# Altium footprint library CREE-JR5050.PcbLib: 1 footprints
Each footprint in its own frame and in the unit in brackets; x right, y up, seen from the top. Pads: shape width x height; smd on the part's side, far side on the other; paste and mask are expansions set on the pad; w line width, h text height; cw(c..) or ccw(c..) is an arc to the next point about the centre after c.
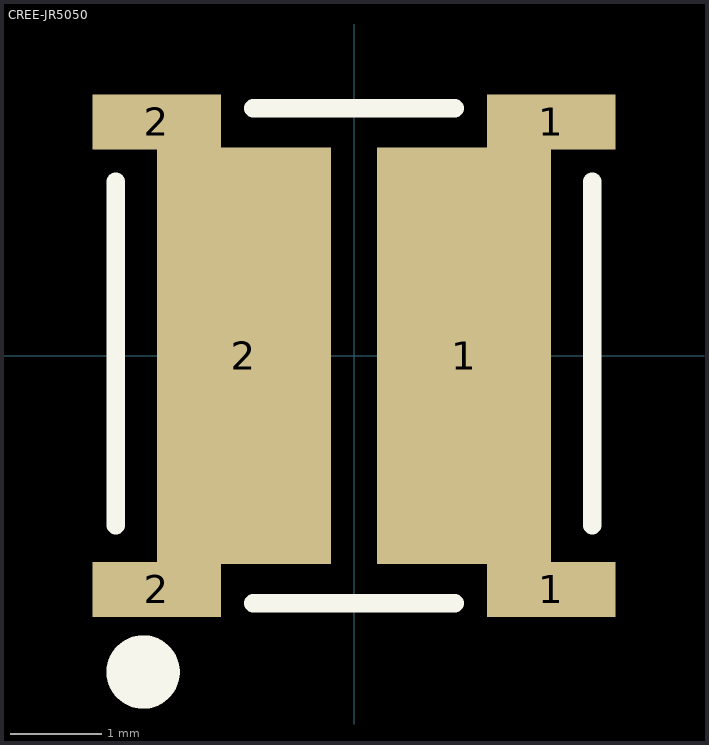
[diagram p0: the footprint, top view; thin cyan lines are the x and y axes]

## CREE-JR5050 [mm] "Cree Inc J Series 5050 LED"
pads (6):
  rect 1.9x4.54 smd paste-0.2 mask+0.05: 1(1.2,0) 2(-1.2,0)
  rect 1.4x0.6 smd paste-1 mask+0.05: 1(2.15,-2.55) 1(2.15,2.55) 2(-2.15,-2.55) 2(-2.15,2.55)
Top Overlay:
  circle w0.4: c-2.3,-3.45 r0.2
  lines w0.2: -2.6,-1.85 -2.6,1.9 ; -1.1,-2.7 1.1,-2.7 ; -1.1,2.7 1.1,2.7 ; 2.6,-1.85 2.6,1.9
3D body: height 1.25, standoff 0, extent -2.5,-2.6 2.5,2.6